# EAGLE library part 6MM_ILLUMINATED_TACTILE (library 000_nl2)
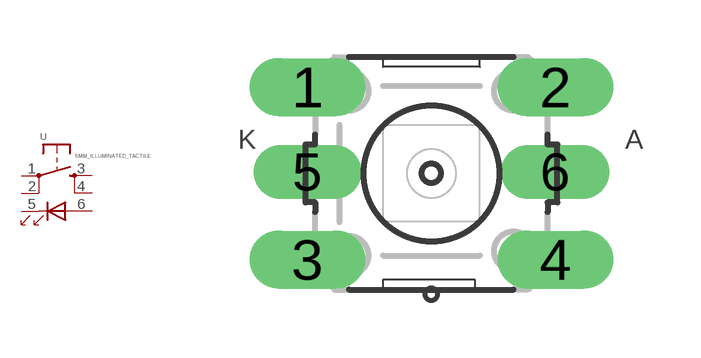
[diagram p35: symbol with the pads of 6MM_ILLUMINATE_TACTILE; footprint 6MM_ILLUMINATE_TACTILE]

Designator prefix -

## 6MM_ILLUMINATED_TACTILE  [6MM_ILLUMINATE_TACTILE]
1  P  pas
2  P1  pas
3  S  pas
4  S1  pas
5  C  pas
6  A  pas

## Footprint 6MM_ILLUMINATE_TACTILE (pad centres in mm)
drill 1.016 long: 1 -3.251,2.261; 2 3.251,2.261; 3 -3.251,-2.261; 4 3.251,-2.261
drill 0.8 pad 1.422 long: 5 -3.251,0.038; 6 3.251,0.038